# Altium footprint library IFBpcblib.PcbLib: 85 footprints (part 1 of 6)
Each footprint in its own frame and in the unit in brackets; x right, y up, seen from the top. Pads: shape width x height; smd on the part's side, far side on the other; paste and mask are expansions set on the pad; w line width, h text height; cw(c..) or ccw(c..) is an arc to the next point about the centre after c.
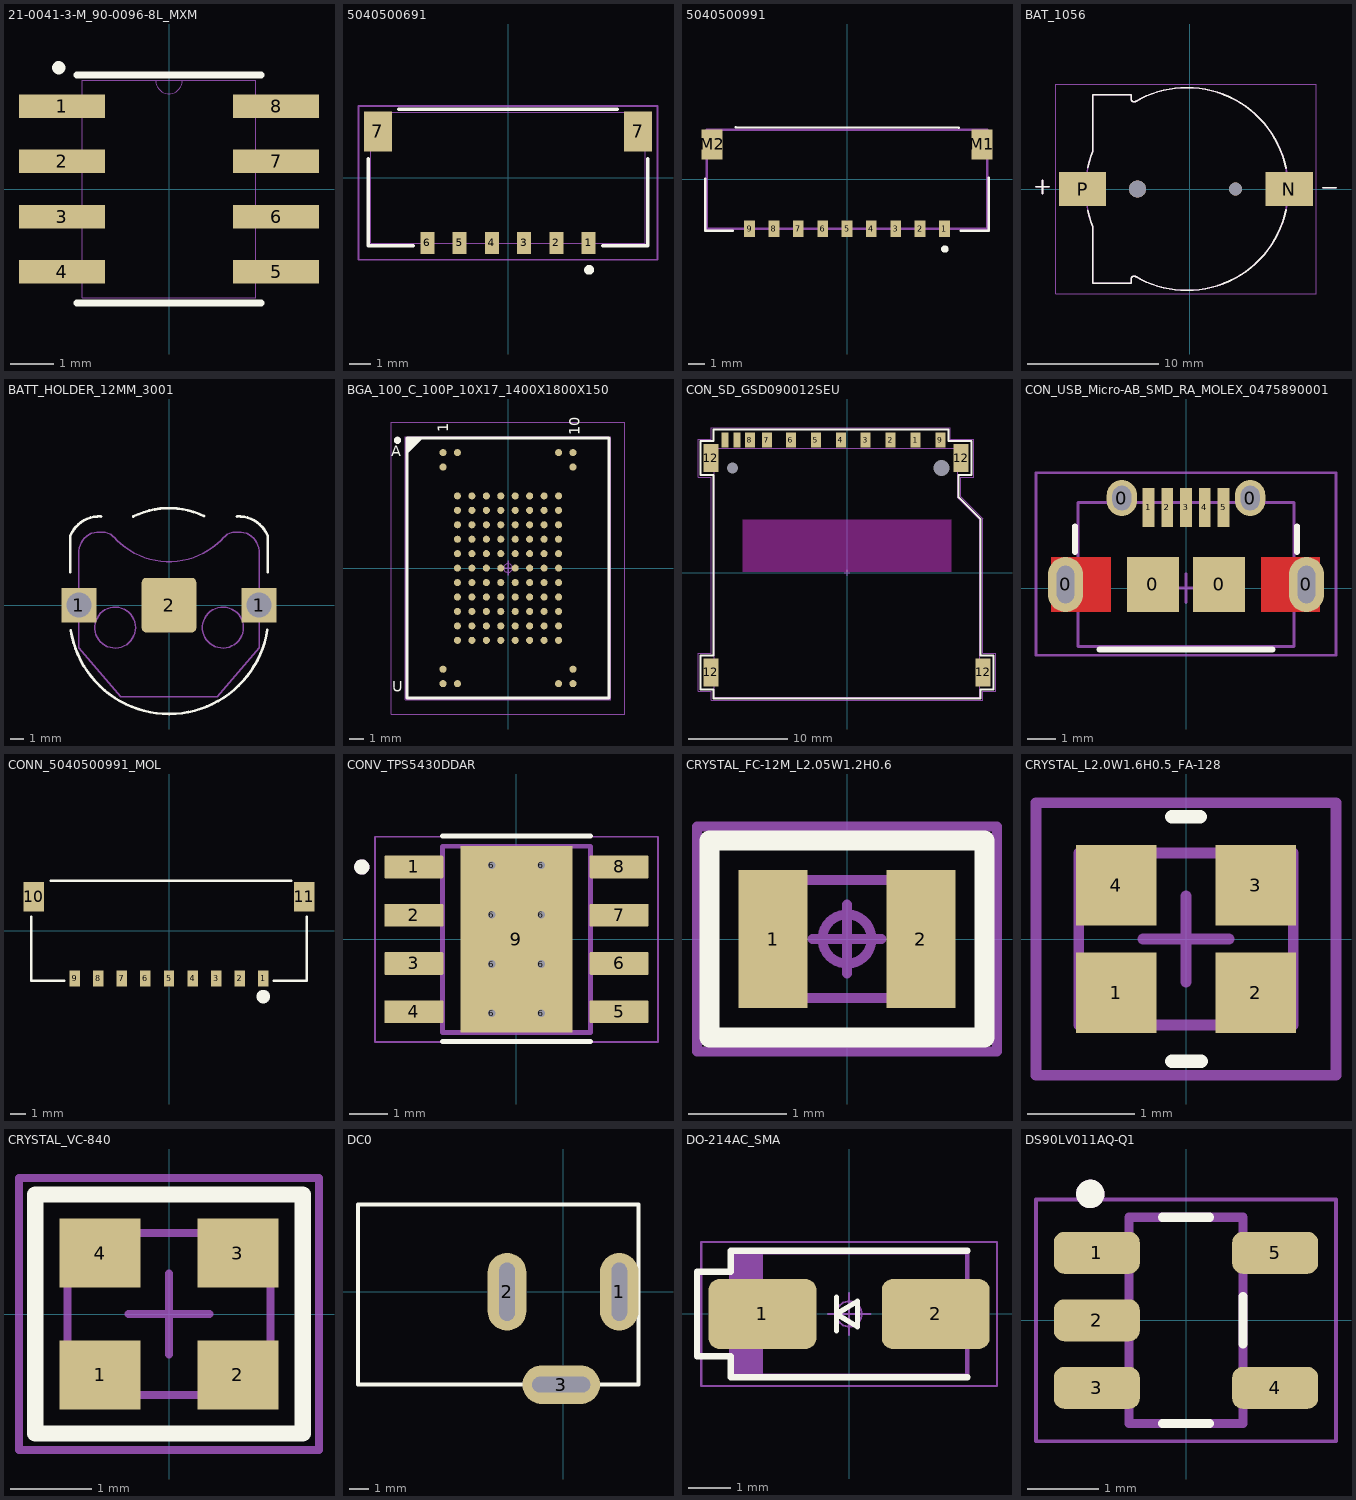
[diagram p0: the footprints below, top view; thin cyan lines are the x and y axes]

## 21-0041-3-M_90-0096-8L_MXM [mm]
pads (8):
  rect 1.981x0.541 smd paste+0 mask+0: 1(-2.465,1.905) 2(-2.465,0.635) 3(-2.465,-0.635) 4(-2.465,-1.905) 5(2.465,-1.905) 6(2.465,-0.635) 7(2.465,0.635) 8(2.465,1.905)
Top Overlay:
  circle w0.203: c-2.54,2.794 r0.051
  lines w0.152: -2.127,-2.627 2.127,-2.627 ; -2.127,2.627 2.127,2.627
Mechanical 13:
  lines w0: -0.305,2.5 ccw(c0,2.5) 0.305,2.5
  lines w0.025: -3.1,-2.15 -3.1,-1.66 -2,-1.66 -2,-2.15 -3.1,-2.15 ; -3.1,-0.88 -3.1,-0.39 -2,-0.39 -2,-0.88 -3.1,-0.88 ; -3.1,0.39 -3.1,0.88 -2,0.88 -2,0.39 -3.1,0.39 ; -3.1,1.66 -3.1,2.15 -2,2.15 -2,1.66 -3.1,1.66 ; -2,-2.5 2,-2.5 2,2.5 -2,2.5 -2,-2.5 ; 2,-2.15 2,-1.66 3.1,-1.66 3.1,-2.15 2,-2.15 ; 2,-0.88 2,-0.39 3.1,-0.39 3.1,-0.88 2,-0.88 ; 2,0.39 2,0.88 3.1,0.88 3.1,0.39 2,0.39 ; 2,1.66 2,2.15 3.1,2.15 3.1,1.66 2,1.66
3D body "21-0041-3-M_90-0096-8L_MXM.step": height 1.75, standoff 0, extent -3.1,-2.5 3.1,2.5

## 5040500691 [mil]
pads (8):
  rect 26x41 smd paste+0: 1(147.64,-119.76) 2(88.58,-119.76) 3(29.53,-119.76) 4(-29.53,-119.76) 5(-88.58,-119.76) 6(-147.64,-119.76)
  rect 51x73 smd: 7(-238.19,84.57) 7(238.19,84.57)
Top Overlay:
  circle w10: c148.53,-169 r3.94
  lines w6: -256,34.97 -256,-125 -173.74,-125 ; -200.19,125 200.19,125 ; 173.74,-125 256,-125 256,34.97
Mechanical 13:
  lines w1: -251,-120 251,-120 251,120 -251,120 -251,-120
Mechanical 15:
  lines w3: -273.69,-150.26 -273.69,131.07 273.69,131.07 273.69,-150.26 -273.69,-150.26
3D body "5040500691.stp": height 78.74, standoff 0, extent -266.73,-127.54 266.73,126

## 5040500991 [mil]
pads (11):
  rect 26x41 smd: 1(236.22,-119.76) 2(177.17,-119.76) 3(118.11,-119.76) 4(59.06,-119.76) 5(0,-119.76) 6(-59.06,-119.76) 7(-118.11,-119.76) 8(-177.17,-119.76) 9(-236.22,-119.76)
  rect 51x73 smd: M1(326.97,84.57) M2(-326.97,84.57)
Top Overlay:
  circle w10: c237.11,-169 r3.94
  lines w6: -344,2 -344,-125 -277,-125 ; -270,126 271,125 ; 276,-125 344,-125 344,4
Mechanical 13:
  lines w6: -340,-120 340,-120 340,120 -340,120 -340,-120
3D body "5040500991.stp": height 78.74, standoff 0, extent -354.09,-129.25 356.54,124.29

## BAT_1056 [mm]
height 3.99
pads (4):
  rect 3.6x2.6 smd: N(7.61,0) P(-8.18,0)
  round 1.3 hole 1.3 unplated: ""(-3.98,0)
  round 1 hole 1 unplated: ""(3.51,0)
Top Overlay:
  lines w0.127: -11.735,0.16 -10.735,0.16 ; -11.235,-0.34 -11.235,0.66 ; -7.78,-1.632 ccw(c-0.484,-0.082) -7.4,-2.876 ; -7.78,1.632 cw(c-0.484,0.082) -7.4,2.876 ; -7.41,-2.85 -7.41,-7.2 -4.46,-7.2 -4.46,-6.88 ; -7.41,2.85 -7.41,7.2 -4.46,7.2 -4.46,6.88 ; -4.46,-6.881 cw(c-4.255,-6.87) -4.266,-6.665 cw(c-4.248,-7.014) -4.084,-6.705 ; -4.46,6.881 ccw(c-4.255,6.87) -4.266,6.665 ccw(c-4.248,7.014) -4.084,6.705 ; -4.078,-6.709 ccw(c-0.212,-0.013) -0.212,-7.745 ; -4.078,6.709 cw(c-0.212,0.013) -0.212,7.745 ; -0.21,-7.745 ccw(c-0.21,0) 7.366,-1.61 ; -0.21,7.745 cw(c-0.21,0) 7.366,1.61 ; 10.185,0.09 11.185,0.09
Mechanical 13:
  lines w0.127: -11.735,0.16 -10.735,0.16 ; -11.235,-0.34 -11.235,0.66 ; -7.41,-2.85 -7.41,-7.2 -4.46,-7.2 -4.46,-6.88 ; -7.41,2.85 -7.41,7.2 -4.46,7.2 -4.46,6.88 ; -7.393,-2.893 cw(c-0.231,0) -7.393,2.893 ; -4.46,-6.881 cw(c-4.255,-6.87) -4.266,-6.665 cw(c-4.248,-7.014) -4.084,-6.705 ; -4.46,6.881 ccw(c-4.255,6.87) -4.266,6.665 ccw(c-4.248,7.014) -4.084,6.705 ; -4.078,-6.709 ccw(c-0.212,-0.013) -0.212,-7.745 ; -4.078,6.709 cw(c-0.212,0.013) -0.212,7.745 ; -0.21,-7.745 ccw(c-0.21,0) -0.21,7.745 ; 10.185,0.09 11.185,0.09
Mechanical 15:
  lines w0.05: -10.23,-8 9.66,-8 9.66,8 -10.23,8 -10.23,-8
3D body "step_temp.STEP": height 1.83, standoff -3.33, extent -6.361,-9.342 8.777,9.458

## BATT_HOLDER_12MM_3001 [mil] "BATTERY HOLDER 12MM COIN TH"
height 118.11
pads (3):
  rect 100x100 hole 73: 1(-260,0) 1(260,0)
  rrect15% 157.48x157.48 smd: 2(0,0)
Top Overlay:
  lines w7.87: -285.04,94.49 -285.04,200 ; -285,200 cw(c-201.21,165.66) -196.53,256.09 ; -283.69,-73.03 ccw(c0,-27) 284.02,-70.98 ; -102.93,255.92 cw(c0,47.95) 100.92,256.9 ; 196.53,256.09 cw(c201.21,165.66) 285,200 ; 285.04,94.49 285.04,196.85
Top Assembly:
  circle w3.94: c-155.51,-65 r59.06
  circle w3.94: c155.51,-65 r59.06
  lines w3.94: -260,-31 -290,-31 -290,31 -260,31 ; 260,-31 290,-31 290,31 260,31 ; -260,-123 -260,157 cw(c-203,154) -200,211 cw(c-196.5,154.5) -150.74,187.82 ccw(c-0.03,338.53) 150.68,187.82 cw(c196.45,154.5) 199.95,211 cw(c203,154) 260,157 260,-123 140,-265 -140,-265 -260,-123
Top Courtyard:
  lines w3.94: -35,0 0,0 ; 0,-35 0,0 ; 0,35 0,0 ; 35,0 0,0
3D body "Keystone3001-1.STEP": height 127.95, standoff -76.77, extent -293.31,-259.91 293.31,240

## BGA_100_C_100P_10X17_1400X1800X150 [mm] "BGA, 100-Leads, Body 14.00x18.00mmx1.50mm, Pitch 1.00mm"
height 1.5
pads (200):
  round 0.49 smd: A1(-4.5,8) A2(-3.5,8) A9(3.5,8) A10(4.5,8) B1(-4.5,7) B10(4.5,7) D2(-3.5,5) D3(-2.5,5) D4(-1.5,5) D5(-0.5,5) D6(0.5,5) D7(1.5,5) D8(2.5,5) D9(3.5,5) E2(-3.5,4) E3(-2.5,4) E4(-1.5,4) E5(-0.5,4) E6(0.5,4) E7(1.5,4) E8(2.5,4) E9(3.5,4) F2(-3.5,3) F3(-2.5,3) F4(-1.5,3) F5(-0.5,3) F6(0.5,3) F7(1.5,3) F8(2.5,3) F9(3.5,3) G2(-3.5,2) G3(-2.5,2) G4(-1.5,2) G5(-0.5,2) G6(0.5,2) G7(1.5,2) G8(2.5,2) G9(3.5,2) H2(-3.5,1) H3(-2.5,1) H4(-1.5,1) H5(-0.5,1) H6(0.5,1) H7(1.5,1) H8(2.5,1) H9(3.5,1) J2(-3.5,0) J3(-2.5,0) J4(-1.5,0) J5(-0.5,0) J6(0.5,0) J7(1.5,0) J8(2.5,0) J9(3.5,0) K2(-3.5,-1) K3(-2.5,-1) K4(-1.5,-1) K5(-0.5,-1) K6(0.5,-1) K7(1.5,-1) K8(2.5,-1) K9(3.5,-1) L2(-3.5,-2) L3(-2.5,-2) L4(-1.5,-2) L5(-0.5,-2) L6(0.5,-2) L7(1.5,-2) L8(2.5,-2) L9(3.5,-2) M2(-3.5,-3) M3(-2.5,-3) M4(-1.5,-3) M5(-0.5,-3) M6(0.5,-3) M7(1.5,-3) M8(2.5,-3) M9(3.5,-3) N2(-3.5,-4) N3(-2.5,-4) N4(-1.5,-4) N5(-0.5,-4) N6(0.5,-4) N7(1.5,-4) N8(2.5,-4) N9(3.5,-4) P2(-3.5,-5) P3(-2.5,-5) P4(-1.5,-5) P5(-0.5,-5) P6(0.5,-5) P7(1.5,-5) P8(2.5,-5) P9(3.5,-5) T1(-4.5,-7) T10(4.5,-7) U1(-4.5,-8) U2(-3.5,-8) U9(3.5,-8) U10(4.5,-8)
  round 0.35 on Mech8 paste+0 mask+0: A1(-4.5,8) A2(-3.5,8) A9(3.5,8) A10(4.5,8) B1(-4.5,7) B10(4.5,7) D2(-3.5,5) D3(-2.5,5) D4(-1.5,5) D5(-0.5,5) D6(0.5,5) D7(1.5,5) D8(2.5,5) D9(3.5,5) E2(-3.5,4) E3(-2.5,4) E4(-1.5,4) E5(-0.5,4) E6(0.5,4) E7(1.5,4) E8(2.5,4) E9(3.5,4) F2(-3.5,3) F3(-2.5,3) F4(-1.5,3) F5(-0.5,3) F6(0.5,3) F7(1.5,3) F8(2.5,3) F9(3.5,3) G2(-3.5,2) G3(-2.5,2) G4(-1.5,2) G5(-0.5,2) G6(0.5,2) G7(1.5,2) G8(2.5,2) G9(3.5,2) H2(-3.5,1) H3(-2.5,1) H4(-1.5,1) H5(-0.5,1) H6(0.5,1) H7(1.5,1) H8(2.5,1) H9(3.5,1) J2(-3.5,0) J3(-2.5,0) J4(-1.5,0) J5(-0.5,0) J6(0.5,0) J7(1.5,0) J8(2.5,0) J9(3.5,0) K2(-3.5,-1) K3(-2.5,-1) K4(-1.5,-1) K5(-0.5,-1) K6(0.5,-1) K7(1.5,-1) K8(2.5,-1) K9(3.5,-1) L2(-3.5,-2) L3(-2.5,-2) L4(-1.5,-2) L5(-0.5,-2) L6(0.5,-2) L7(1.5,-2) L8(2.5,-2) L9(3.5,-2) M2(-3.5,-3) M3(-2.5,-3) M4(-1.5,-3) M5(-0.5,-3) M6(0.5,-3) M7(1.5,-3) M8(2.5,-3) M9(3.5,-3) N2(-3.5,-4) N3(-2.5,-4) N4(-1.5,-4) N5(-0.5,-4) N6(0.5,-4) N7(1.5,-4) N8(2.5,-4) N9(3.5,-4) P2(-3.5,-5) P3(-2.5,-5) P4(-1.5,-5) P5(-0.5,-5) P6(0.5,-5) P7(1.5,-5) P8(2.5,-5) P9(3.5,-5) T1(-4.5,-7) T10(4.5,-7) U1(-4.5,-8) U2(-3.5,-8) U9(3.5,-8) U10(4.5,-8)
Top Overlay:
  circle w0.25: c-7.65,8.85 r0.125
  region: -6,9 -7,8 -7,9
  lines w0.2: -7,8 -6,9 ; -7,-9 7,-9 7,9 -7,9 -7,-9
  text "A" at -8.1,7.5 h1.27
  text "U" at -8,-8.8 h1.27
  text "1" at -3.9,9.4 h1.27
  text "10" at 5.2,9.2 h1.27
Top Assembly:
  lines w0.025: -7.048,8.555 -6.549,9.055 ; -7.048,-9.055 7.048,-9.055 7.048,9.055 -7.048,9.055 -7.048,-9.055
  lines w0.1: -7,-9 7,-9 7,9 -7,9 -7,-9
  text "A" at -8.319,7.365 h1.27
  text "U" at -8.319,-8.635 h1.27
  text "1" at -3.865,9.69 h1.27
  text "10" at 5.135,9.69 h1.27
  text "'.Designator'" at -3.952,-0.622 h1.5
Top Courtyard:
  lines w0.05: -8.1,-10.1 8.1,-10.1 8.1,10.1 -8.1,10.1 -8.1,-10.1
  lines w0.1: -0.5,0 0.5,0 ; 0,-0.5 0,0.5
Top Component Outline:
  lines w0.05: -7.1,-9.1 7.1,-9.1 7.1,9.1 -7.1,9.1 -7.1,-9.1
Top Component Center:
  circle w0.05: c0,0 r0.3
  lines w0.05: -0.5,0 0.5,0 ; 0,-0.5 0,0.5
3D body "BGA100C100P10X17_1400X1800X150.step": height 1.5, standoff 0, extent -7,-9 7,9

## CON_SD_GSD090012SEU [mm]
pads (17):
  rect 1x1.5 smd mask+0.05: 1(6.875,13.3) 2(4.375,13.3) 3(1.875,13.3) 4(-0.625,13.3) 5(-3.125,13.3) 6(-5.625,13.3) 7(-8.05,13.3) 8(-9.75,13.3) 9(9.375,13.3)
  round 0 hole 1.1 unplated mask+0.05: 1.5mm(-11.5,10.5)
  round 0 hole 1.6 unplated mask+0.05: 1.5mm(9.5,10.5)
  rect 0.7x1.5 smd mask+0.05: 10(-11.05,13.3) 11(-12.25,13.3)
  rect 1.5x2.8 smd mask+0.05: 12(-13.65,-10) 12(-13.65,11.5) 12(11.45,11.5) 12(13.65,-10)
Top Layer keep-out:
  rectangle: -10.5,0.05 10.5,5.35
Top Overlay:
  lines w0.2: -14.7,-11.7 -14.7,-8.3 -13.4,-8.3 -13.4,9.8 -14.7,9.8 -14.7,13.2 -13.4,13.2 -13.4,14.35 10.175,14.35 10.175,13.2 12.5,13.2 12.5,9.8 11.2,9.8 11.2,7.55 13.4,5.35 13.4,5.3 13.4,-8.3 14.7,-8.3 14.7,-11.7 13.4,-11.7 13.4,-12.6 -13.4,-12.6 -13.4,-11.7 -14.7,-11.7
Top Assembly:
  lines w0.1: -13.3,-12.5 -13.3,12.5 11.1,12.5 11.1,7.5 13.3,5.3 13.3,-12.5 -13.3,-12.5
Top Courtyard:
  lines w0.1: -0.3,0 0.3,0 ; 0,-0.3 0,0.3 ; -14.9,-11.9 -14.9,-8.1 -13.6,-8.1 -13.6,9.6 -14.9,9.6 -14.9,13.4 -14.25,13.4 -13.6,13.4 -13.6,14.125 -13.6,14.55 10.375,14.55 10.375,13.4 12.7,13.4 12.7,9.6 11.4,9.6 11.4,7.625 11.425,7.6 13.6,5.425 13.6,-8.1 14.9,-8.1 14.9,-11.9 13.6,-11.9 13.6,-12.8 -13.6,-12.8 -13.6,-11.9 -14.9,-11.9
3D body "GSD090012SEU.stp": height 3.3, standoff -0.8, extent -14.075,-12.5 14.025,13.75

## CON_USB_Micro-AB_SMD_RA_MOLEX_0475890001 [mm] "Connector, Receptacle, Micro-USB Type AB, R/A, SMT"
height 2.96
pads (11):
  oval 1.225x1.9 hole 0.6 slot 1.3 at 90 deg: 0(-4.175,0.127) 0(4.175,0.127)
  oval 1.05x1.25 hole 0.65 slot 0.85 at 90 deg mask+0.05: 0(-2.225,3.125) 0(2.225,3.125)
  rect 1.8x1.9 smd: 0(-1.15,0.127) 0(1.15,0.127)
  rect 0.4x1.35 smd mask+0.05: 1(-1.3,2.8) 2(-0.65,2.8) 3(0,2.8) 4(0.65,2.8) 5(1.3,2.8)
Top Layer:
  region: 4.65,1.077 2.6,1.077 2.6,-0.823 4.65,-0.823
  rectangle: -4.675,-0.823 -2.6,1.077
Top Overlay:
  lines w0.2: -3.85,1.25 -3.85,2.15 ; -3,-2.125 3,-2.125 ; 3.85,1.25 3.85,2.15
  text "." at -1.524,4.191 h1
Top Assembly:
  lines w0.1: -3.75,-2.025 3.75,-2.025 3.75,2.975 -3.75,2.975 -3.75,-2.025
  text "1" at -1.5,1.775 h1
  text ".Designator" at -4,-0.5 h1
Top Courtyard:
  lines w0.1: -0.5,0 0.5,0 ; 0,-0.5 0,0.5 ; -5.2,-2.325 5.2,-2.325 5.2,4 -5.2,4 -5.2,-2.325
3D body "475890001.stp": height 2.76, standoff -0.55, extent -4.318,-2.566 4.332,3.328

## CONN_5040500991_MOL [mil]
pads (11):
  rect 26x41 smd paste+0 mask+0: 1(236.22,-120) 2(177.17,-120) 3(118.11,-120) 4(59.06,-120) 5(0,-120) 6(-59.06,-120) 7(-118.11,-120) 8(-177.17,-120) 9(-236.22,-120)
  rect 51x73 smd paste+0 mask+0: 10(-338.78,84.33) 11(338.78,84.33)
Top Overlay:
  circle w30: c236.22,-165.24 r2
  lines w6: -344.5,34.73 -344.5,-125.24 -262.32,-125.24 ; -295.78,124.76 305.78,124.76 ; 262.32,-125.24 344.5,-125.24 344.5,34.73
3D body "5040500991.stp": height 78.74, standoff 0, extent -355.31,-130 355.31,123.54

## CONV_TPS5430DDAR [mm] "IC REG BUCK ADJ 3A 8SOPWR"
pads (17):
  rrect10% 1.55x0.6 smd mask+0: 1(-2.7,1.905) 2(-2.7,0.635) 3(-2.7,-0.635) 4(-2.7,-1.905) 5(2.7,-1.905) 6(2.7,-0.635) 7(2.7,0.635) 8(2.7,1.905)
  round 0.3 hole 0.2 mask+0: 6(-0.65,-1.95) 6(-0.65,-0.65) 6(-0.65,0.65) 6(-0.65,1.95) 6(0.65,-1.95) 6(0.65,-0.65) 6(0.65,0.65) 6(0.65,1.95)
  rect 2.95x4.9 smd paste+0: 9(0,0)
Top Overlay:
  circle w0.2: c-4.07,1.905 r0.1
  lines w0.127: -1.944,-2.692 1.956,-2.692 ; -1.944,2.718 1.956,2.718
Top Paste:
  region: 1.3,-1.55 -1.3,-1.55 -1.3,1.55 1.3,1.55
Top Solder:
  drawing of 9 lines, arcs and shapes, not listed
Mechanical 13:
  circle w0.2: c-4.07,1.905 r0.1
  lines w0.127: -1.95,-2.45 -1.95,2.45 1.95,2.45 1.95,-2.45 -1.95,-2.45
Mechanical 15:
  lines w0.05: -3.725,-2.7 -3.725,2.7 3.725,2.7 3.725,-2.7 -3.725,-2.7
3D body "step_temp.STEP": height 1.7, standoff 0, extent -3,-2.45 3,2.45

## CRYSTAL_FC-12M_L2.05W1.2H0.6 [mm] "CRYSTAL 32.768KHZ 12.5PF SMD"
height 0.6
pads (2):
  rect 0.7x1.4 smd mask+0: 1(-0.75,0) 2(0.75,0)
Top Overlay:
  lines w0.2: -1.397,-1 1.397,-1 1.397,1 -1.397,1 -1.397,-1
Top Assembly:
  lines w0.1: -1.025,-0.6 -1.025,0.6 1.025,0.6 1.025,-0.6 -1.025,-0.6
Top Courtyard:
  circle w0.1: c0,0 r0.25
  lines w0.1: -0.35,0 0.35,0 ; 0,-0.35 0,0.35 ; -1.524,-1.143 1.524,-1.143 1.524,1.143 -1.524,1.143 -1.524,-1.143
Top 3D Body:
  lines w0.1: -1.025,-0.6 1.025,-0.6 1.025,0.6 -1.025,0.6 -1.025,-0.6
3D body "FC-12M 32.7680KA-A5.STEP": height 0.6, standoff 0, extent -1.025,-0.6 1.025,0.6

## CRYSTAL_L2.0W1.6H0.5_FA-128 [mm]
height 0.5
pads (4):
  rect 0.75x0.75 smd: 1(-0.65,-0.5) 2(0.65,-0.5) 3(0.65,0.5) 4(-0.65,0.5)
Top Overlay:
  lines w0.127: -0.13,-1.14 0.14,-1.14 ; -0.13,1.14 0.13,1.14
  text "." at -1.02,-1.23 h0.3
Top Assembly:
  lines w0.1: -1,-0.8 -1,0.8 1,0.8 1,-0.8 -1,-0.8
Top Courtyard:
  lines w0.1: -0.4,0 0.4,0 ; 0,-0.4 0,0.4 ; -1.397,-1.27 1.397,-1.27 1.397,1.27 -1.397,1.27 -1.397,-1.27
3D body "ABM11.step": height 0.59, standoff 0, extent -1,-0.8 1,0.8

## CRYSTAL_VC-840 [mm] "L=2.5mm, W=2.0mm, H=0.8mm"
height 0.8
pads (4):
  rect 1x0.85 smd: 1(-0.85,-0.75) 2(0.85,-0.75) 3(0.85,0.75) 4(-0.85,0.75)
Top Overlay:
  lines w0.2: -1.65,-1.475 1.65,-1.475 1.65,1.475 -1.65,1.475 -1.65,-1.475
  text "." at -1.575,-2.075 h1
Top Assembly:
  lines w0.1: -1.25,-1 1.25,-1 1.25,1 -1.25,1 -1.25,-1
Top Courtyard:
  lines w0.1: -0.5,0 0.5,0 ; 0,-0.5 0,0.5 ; -1.85,-1.675 1.85,-1.675 1.85,1.675 -1.85,1.675 -1.85,-1.675
3D body "2520_crystal.step": height 0.55, standoff 0, extent -1.3,-1.05 1.3,1.05

## DC0 [mm] "Jac DC input"
height 5.08
pads (3):
  oval 2x4 hole 0.8 slot 3 at 90 deg: 1(2.9,0) 2(-2.9,0)
  oval 4x2 hole 0.8 slot 3 at 0 deg: 3(-0.1,-4.8)
Top Overlay:
  lines w0.2: -2.1,-4.8 -10.6,-4.8 -10.6,4.5 3.9,4.5 3.9,-4.8 1.9,-4.8
3D body "694106301002.stp": height 10.7, standoff -3.8, extent -10.6,-4.9 3.9,4.5

## DO-214AC_SMA [mm] "Molded Diode, 2-Leads, Body 5.20x2.61mm, IPC Medium Density"
height 2.4
pads (2):
  rrect30% 2.55x1.65 smd: 1(-2.05,0) 2(2.05,0)
Top Overlay:
  lines w0.125: -0.3,-0.4 -0.3,0.4 ; -0.3,0 0.2,-0.3 0.2,0.3 -0.3,0
  lines w0.15: 2.8,-1.5 -2.8,-1.5 -2.8,-1.4 -2.8,-1 -3.6,-1 -3.6,1 -2.8,1 -2.8,1.5 2.8,1.5
Top Assembly:
  rectangle: -2.795,-1.46 -2.043,1.46
  lines w0.1: -2.795,-1.46 -2.795,1.46 2.795,1.46 2.795,-1.46 -2.795,-1.46
  text "'.Designator'" at -3.952,-0.622 h1.5
Top Courtyard:
  lines w0.05: -3.5,-1.7 -3.5,1.7 3.5,1.7 3.5,-1.7 -3.5,-1.7
Top Component Outline:
  rectangle: -2.8,-0.815 -1.28,0.815
  region: 2.8,0.815 1.28,0.815 1.28,-0.815 2.8,-0.815
  lines w0.05: -2.795,-1.46 -2.795,1.46 2.795,1.46 2.795,-1.46 -2.795,-1.46
Top Component Center:
  circle w0.05: c0,0 r0.3
  lines w0.05: -0.5,0 0.5,0 ; 0,-0.5 0,0.5
3D body "SMAJ12A-13-F.step": height 2.4, standoff 0, extent -2.598,-1.302 2.598,1.302

## DS90LV011AQ-Q1 [mm]
pads (5):
  rrect50% 1.21x0.59 smd: 1(-1.255,0.95) 2(-1.255,0) 3(-1.255,-0.95) 4(1.255,-0.95) 5(1.255,0.95)
Top Overlay:
  circle w0.2: c-1.346,1.778 r0.1
  lines w0.127: -0.33,-1.45 0.33,-1.45 ; -0.33,1.45 0.33,1.45 ; 0.8,-0.335 0.8,0.335
Mechanical 13:
  circle w0.2: c-1.346,1.778 r0.1
  lines w0.127: -0.8,-1.45 -0.8,1.45 0.8,1.45 0.8,-1.45 -0.8,-1.45
Mechanical 15:
  lines w0.05: -2.11,-1.7 2.11,-1.7 2.11,1.7 -2.11,1.7 -2.11,-1.7
3D body "step_temp.STEP": height 1.45, standoff 0, extent -1.4,-1.45 1.4,1.45